# Altium integrated library ST Microprocessor 32-Bit.IntLib: 24 symbols (part 2 of 2)
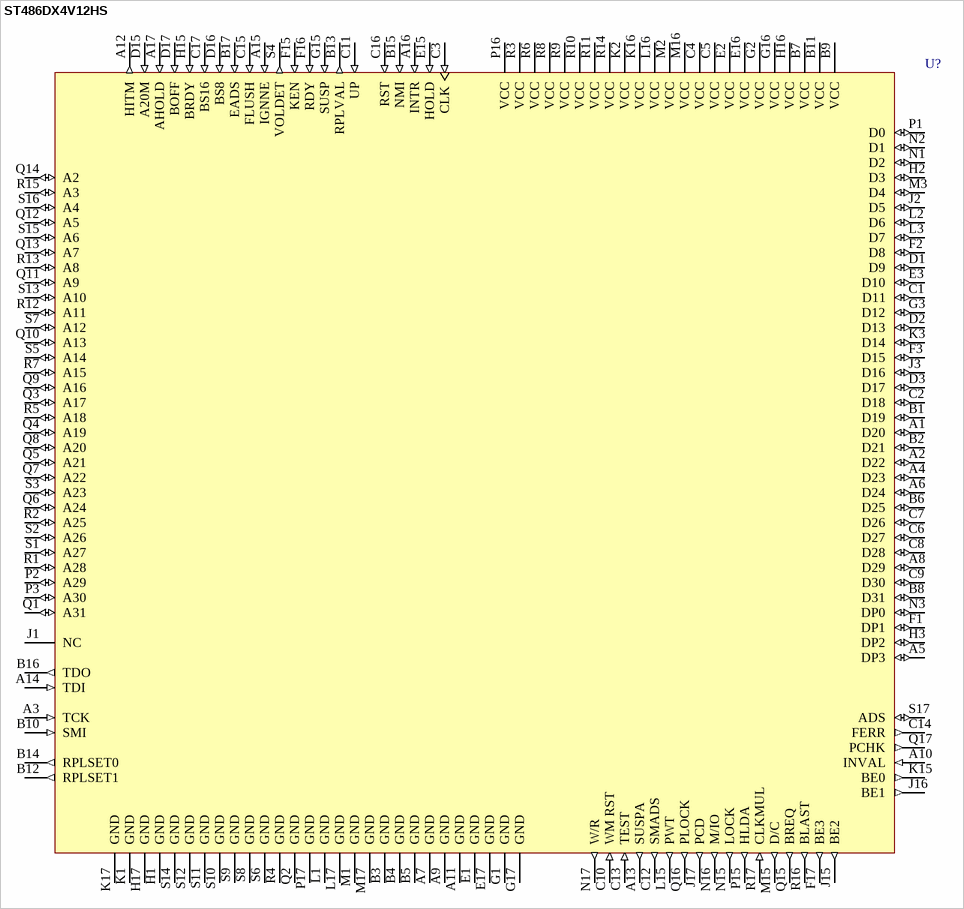
[diagram p17: symbol ST486DX4V12HS]

## ST486DX4V12HS
designator U?
120 Mhz Clock, Triple 3.45 Volt 486 CPU, 168-Pin PGA; Published: 24-Aug-2001; LatestRevisionDate: 6-Jun-2005; LatestRevisionNote: Stylized 3D Model Added.; DatasheetDocument: Oct-1995; PackageReference: PGA168; Publisher: Altium Limited; ComponentLink1Description: Manufacturer Link; ComponentLink1URL: http://www.st.com/
footprint PGA168 (PGA; 168 Leads; Body 44.5 x 44.5 mm; Plain Grid)
3D model ST486DX4V-PGA168 (PGA; 168 Leads; Body 44.5 x 44.5 mm; Plain Grid)
pins: A1 D20 (io), A2 D22 (io), A3 TCK (in), A4 D23 (io), A5 DP3 (io), A6 D24 (io), A7 GND (power), A8 D29 (io), A9 GND (power), A10 INVAL (in), A11 GND (power), A12 HITM (out), A13 SUSPA (out), A14 TDI (in), A15 IGNNE (in), A16 INTR (in), A17 AHOLD (in), B1 D19 (io), B2 D21 (io), B3 GND (power), B4 GND (power), B5 GND (power), B6 D25 (io), B7 VCC (power), B8 D31 (io), B9 VCC (power), B10 SMI (in), B11 VCC (power), B12 RPLSET1 (out), B13 RPLVAL (out), B14 RPLSET0 (out), B15 NMI (in), B16 TDO (out), B17 EADS (in), C1 D11 (io), C2 D18 (io), C3 CLK (in), C4 VCC (power), C5 VCC (power), C6 D27 (io), C7 D26 (io), C8 D28 (io), C9 D30 (io), C10 WM RST (in), C11 UP (in), C12 SMADS (out), C13 TEST (in), C14 FERR (out), C15 FLUSH (in), C16 RST (in), C17 BS16 (in), D1 D9 (io), D2 D13 (io), D3 D17 (io), D15 A20M (in), D16 BS8 (in), D17 BOFF (in), E1 GND (power), E2 VCC (power), E3 D10 (io), E15 HOLD (in), E16 VCC (power), E17 GND (power), F1 DP1 (io), F2 D8 (io), F3 D15 (io), F15 KEN (in), F16 RDY (in), F17 BE3 (out), G1 GND (power), G2 VCC (power), G3 D12 (io), G15 SUSP (in), G16 VCC (power), G17 GND (power), H1 GND (power), H2 D3 (io), H3 DP2 (io), H15 BRDY (in), H16 VCC (power), H17 GND (power), J1 NC, J2 D5 (io), J3 D16 (io), J15 BE2 (out), J16 BE1 (out), J17 PCD (out), K1 GND (power), K2 VCC (power), K3 D14 (io), K15 BE0 (out), K16 VCC (power), K17 GND (power), L1 GND (power), L2 D6 (io), L3 D7 (io), L15 PWT (out), L16 VCC (power), L17 GND (power), M1 GND (power), M2 VCC (power), M3 D4 (io), M15 D/C (out), M16 VCC (power), M17 GND (power), N1 D2 (io), N2 D1 (io), N3 DP0 (io), N15 LOCK (out), N16 M/IO (out), N17 W/R (out), P1 D0 (io), P2 A29 (io), P3 A30 (io), P15 HLDA (out), P16 VCC (power), P17 GND (power), Q1 A31 (io), Q2 GND (power), Q3 A17 (io), Q4 A19 (io), Q5 A21 (io), Q6 A24 (io), Q7 A22 (io), Q8 A20 (io), Q9 A16 (io), Q10 A13 (io), Q11 A9 (io), Q12 A5 (io), Q13 A7 (io), Q14 A2 (io), Q15 BREQ (out), Q16 PLOCK (out), Q17 PCHK (out), R1 A28 (io), R2 A25 (io), R3 VCC (power), R4 GND (power), R5 A18 (io), R6 VCC (power), R7 A15 (io), R8 VCC (power), R9 VCC (power), R10 VCC (power), R11 VCC (power), R12 A11 (io), R13 A8 (io), R14 VCC (power), R15 A3 (io), R16 BLAST (out), R17 CLKMUL (in), S1 A27 (io), S2 A26 (io), S3 A23 (io), S4 VOLDET (out), S5 A14 (io), S6 GND (power), S7 A12 (io), S8 GND (power), S9 GND (power), S10 GND (power), S11 GND (power), S12 GND (power), S13 A10 (io), S14 GND (power), S15 A6 (io), S16 A4 (io), S17 ADS (io)

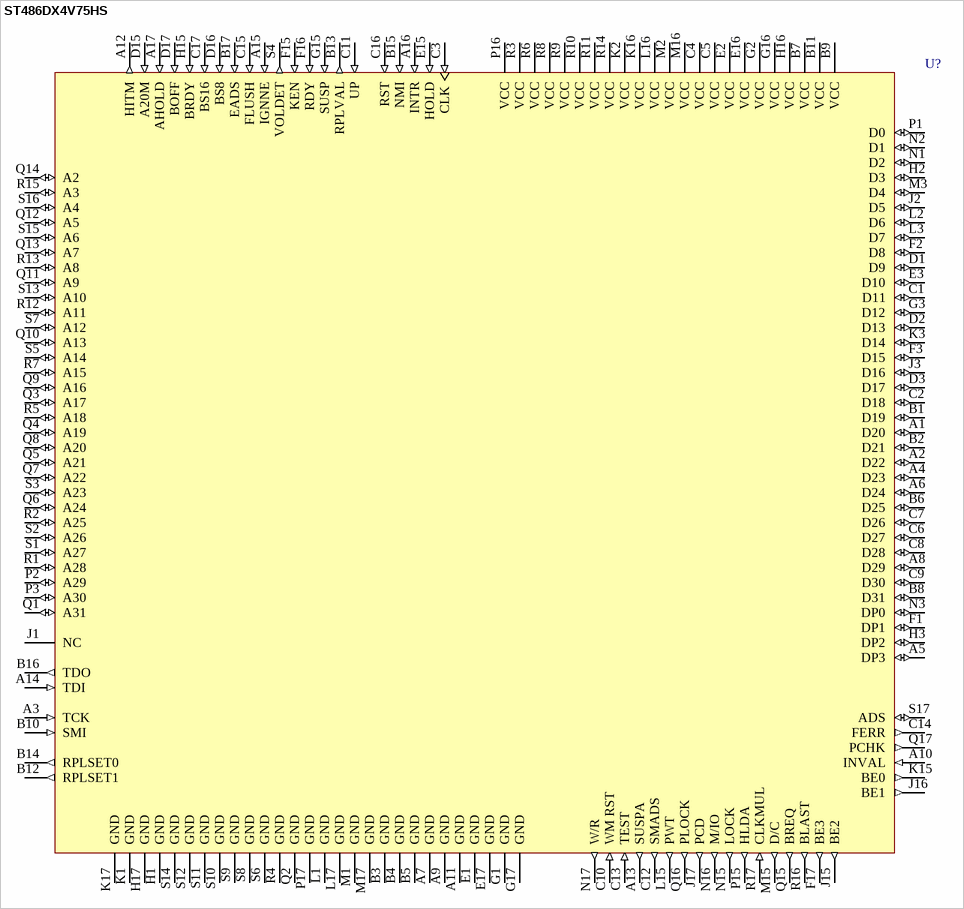
[diagram p13: symbol ST486DX4V75HS]

## ST486DX4V75HS
designator U?
75 Mhz Clock, Triple 3.45 Volt 486 CPU, 168-Pin PGA; Published: 24-Aug-2001; LatestRevisionDate: 6-Jun-2005; LatestRevisionNote: Stylized 3D Model Added.; DatasheetDocument: Oct-1995; PackageReference: PGA168; Publisher: Altium Limited; ComponentLink1Description: Manufacturer Link; ComponentLink1URL: http://www.st.com/
footprint PGA168 (PGA; 168 Leads; Body 44.5 x 44.5 mm; Plain Grid)
3D model ST486DX4V-PGA168 (PGA; 168 Leads; Body 44.5 x 44.5 mm; Plain Grid)
pins: A1 D20 (io), A2 D22 (io), A3 TCK (in), A4 D23 (io), A5 DP3 (io), A6 D24 (io), A7 GND (power), A8 D29 (io), A9 GND (power), A10 INVAL (in), A11 GND (power), A12 HITM (out), A13 SUSPA (out), A14 TDI (in), A15 IGNNE (in), A16 INTR (in), A17 AHOLD (in), B1 D19 (io), B2 D21 (io), B3 GND (power), B4 GND (power), B5 GND (power), B6 D25 (io), B7 VCC (power), B8 D31 (io), B9 VCC (power), B10 SMI (in), B11 VCC (power), B12 RPLSET1 (out), B13 RPLVAL (out), B14 RPLSET0 (out), B15 NMI (in), B16 TDO (out), B17 EADS (in), C1 D11 (io), C2 D18 (io), C3 CLK (in), C4 VCC (power), C5 VCC (power), C6 D27 (io), C7 D26 (io), C8 D28 (io), C9 D30 (io), C10 WM RST (in), C11 UP (in), C12 SMADS (out), C13 TEST (in), C14 FERR (out), C15 FLUSH (in), C16 RST (in), C17 BS16 (in), D1 D9 (io), D2 D13 (io), D3 D17 (io), D15 A20M (in), D16 BS8 (in), D17 BOFF (in), E1 GND (power), E2 VCC (power), E3 D10 (io), E15 HOLD (in), E16 VCC (power), E17 GND (power), F1 DP1 (io), F2 D8 (io), F3 D15 (io), F15 KEN (in), F16 RDY (in), F17 BE3 (out), G1 GND (power), G2 VCC (power), G3 D12 (io), G15 SUSP (in), G16 VCC (power), G17 GND (power), H1 GND (power), H2 D3 (io), H3 DP2 (io), H15 BRDY (in), H16 VCC (power), H17 GND (power), J1 NC, J2 D5 (io), J3 D16 (io), J15 BE2 (out), J16 BE1 (out), J17 PCD (out), K1 GND (power), K2 VCC (power), K3 D14 (io), K15 BE0 (out), K16 VCC (power), K17 GND (power), L1 GND (power), L2 D6 (io), L3 D7 (io), L15 PWT (out), L16 VCC (power), L17 GND (power), M1 GND (power), M2 VCC (power), M3 D4 (io), M15 D/C (out), M16 VCC (power), M17 GND (power), N1 D2 (io), N2 D1 (io), N3 DP0 (io), N15 LOCK (out), N16 M/IO (out), N17 W/R (out), P1 D0 (io), P2 A29 (io), P3 A30 (io), P15 HLDA (out), P16 VCC (power), P17 GND (power), Q1 A31 (io), Q2 GND (power), Q3 A17 (io), Q4 A19 (io), Q5 A21 (io), Q6 A24 (io), Q7 A22 (io), Q8 A20 (io), Q9 A16 (io), Q10 A13 (io), Q11 A9 (io), Q12 A5 (io), Q13 A7 (io), Q14 A2 (io), Q15 BREQ (out), Q16 PLOCK (out), Q17 PCHK (out), R1 A28 (io), R2 A25 (io), R3 VCC (power), R4 GND (power), R5 A18 (io), R6 VCC (power), R7 A15 (io), R8 VCC (power), R9 VCC (power), R10 VCC (power), R11 VCC (power), R12 A11 (io), R13 A8 (io), R14 VCC (power), R15 A3 (io), R16 BLAST (out), R17 CLKMUL (in), S1 A27 (io), S2 A26 (io), S3 A23 (io), S4 VOLDET (out), S5 A14 (io), S6 GND (power), S7 A12 (io), S8 GND (power), S9 GND (power), S10 GND (power), S11 GND (power), S12 GND (power), S13 A10 (io), S14 GND (power), S15 A6 (io), S16 A4 (io), S17 ADS (io)

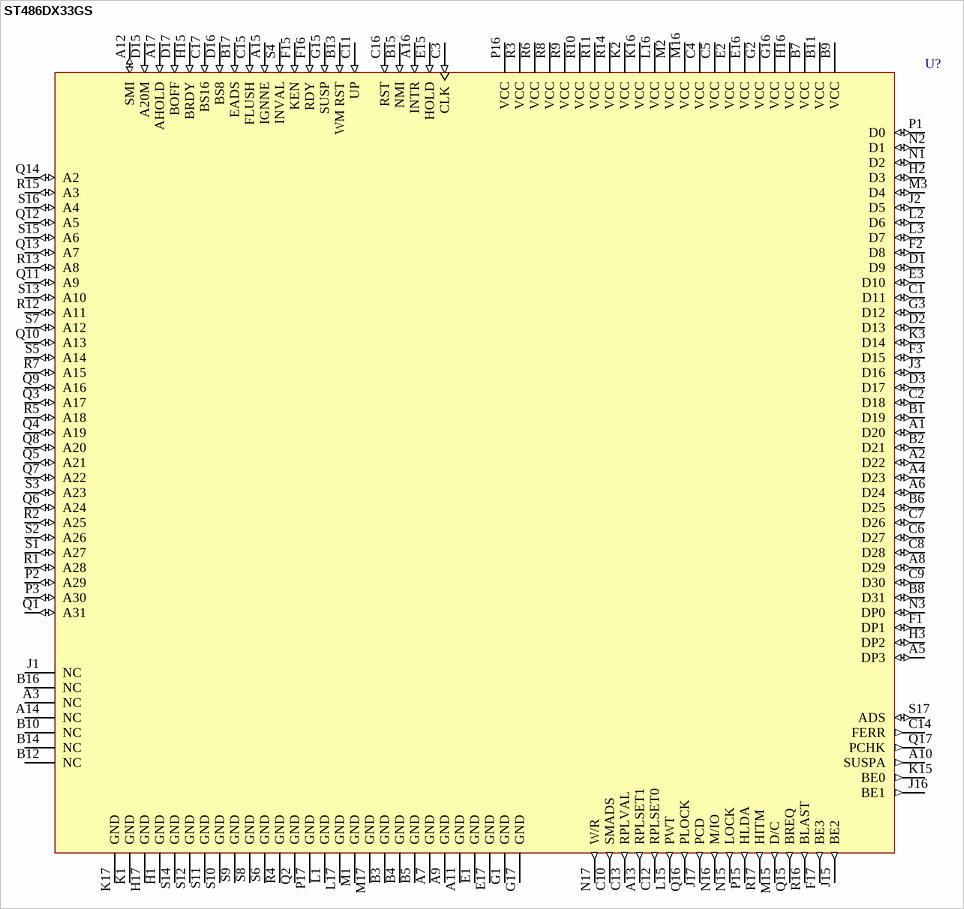
[diagram p14: symbol ST486DX33GS]

## ST486DX33GS
designator U?
5 Volt Central Processing Unit; Published: 24-Aug-2001; LatestRevisionDate: 6-Jun-2005; LatestRevisionNote: Stylized 3D Model Added.; DatasheetDocument: 1995; PackageReference: PGA168; Publisher: Altium Limited; ComponentLink1Description: Manufacturer Link; ComponentLink1URL: http://www.st.com/
footprint PGA168 (PGA; 168 Leads; Body 44.5 x 44.5 mm; Plain Grid)
3D model ST486DX-PGA168 (PGA; 168 Leads; Body 44.5 x 44.5 mm; Plain Grid)
pins: A1 D20 (io), A2 D22 (io), A3 NC, A4 D23 (io), A5 DP3 (io), A6 D24 (io), A7 GND (power), A8 D29 (io), A9 GND (power), A10 SUSPA (out), A11 GND (power), A12 SMI (io), A13 RPLSET1 (out), A14 NC, A15 IGNNE (in), A16 INTR (in), A17 AHOLD (in), B1 D19 (io), B2 D21 (io), B3 GND (power), B4 GND (power), B5 GND (power), B6 D25 (io), B7 VCC (power), B8 D31 (io), B9 VCC (power), B10 NC, B11 VCC (power), B12 NC, B13 WM RST (in), B14 NC, B15 NMI (in), B16 NC, B17 EADS (in), C1 D11 (io), C2 D18 (io), C3 CLK (in), C4 VCC (power), C5 VCC (power), C6 D27 (io), C7 D26 (io), C8 D28 (io), C9 D30 (io), C10 SMADS (out), C11 UP (in), C12 RPLSET0 (out), C13 RPLVAL (out), C14 FERR (out), C15 FLUSH (in), C16 RST (in), C17 BS16 (in), D1 D9 (io), D2 D13 (io), D3 D17 (io), D15 A20M (in), D16 BS8 (in), D17 BOFF (in), E1 GND (power), E2 VCC (power), E3 D10 (io), E15 HOLD (in), E16 VCC (power), E17 GND (power), F1 DP1 (io), F2 D8 (io), F3 D15 (io), F15 KEN (in), F16 RDY (in), F17 BE3 (out), G1 GND (power), G2 VCC (power), G3 D12 (io), G15 SUSP (in), G16 VCC (power), G17 GND (power), H1 GND (power), H2 D3 (io), H3 DP2 (io), H15 BRDY (in), H16 VCC (power), H17 GND (power), J1 NC, J2 D5 (io), J3 D16 (io), J15 BE2 (out), J16 BE1 (out), J17 PCD (out), K1 GND (power), K2 VCC (power), K3 D14 (io), K15 BE0 (out), K16 VCC (power), K17 GND (power), L1 GND (power), L2 D6 (io), L3 D7 (io), L15 PWT (out), L16 VCC (power), L17 GND (power), M1 GND (power), M2 VCC (power), M3 D4 (io), M15 D/C (out), M16 VCC (power), M17 GND (power), N1 D2 (io), N2 D1 (io), N3 DP0 (io), N15 LOCK (out), N16 M/IO (out), N17 W/R (out), P1 D0 (io), P2 A29 (io), P3 A30 (io), P15 HLDA (out), P16 VCC (power), P17 GND (power), Q1 A31 (io), Q2 GND (power), Q3 A17 (io), Q4 A19 (io), Q5 A21 (io), Q6 A24 (io), Q7 A22 (io), Q8 A20 (io), Q9 A16 (io), Q10 A13 (io), Q11 A9 (io), Q12 A5 (io), Q13 A7 (io), Q14 A2 (io), Q15 BREQ (out), Q16 PLOCK (out), Q17 PCHK (out), R1 A28 (io), R2 A25 (io), R3 VCC (power), R4 GND (power), R5 A18 (io), R6 VCC (power), R7 A15 (io), R8 VCC (power), R9 VCC (power), R10 VCC (power), R11 VCC (power), R12 A11 (io), R13 A8 (io), R14 VCC (power), R15 A3 (io), R16 BLAST (out), R17 HITM (out), S1 A27 (io), S2 A26 (io), S3 A23 (io), S4 INVAL (in), S5 A14 (io), S6 GND (power), S7 A12 (io), S8 GND (power), S9 GND (power), S10 GND (power), S11 GND (power), S12 GND (power), S13 A10 (io), S14 GND (power), S15 A6 (io), S16 A4 (io), S17 ADS (io)

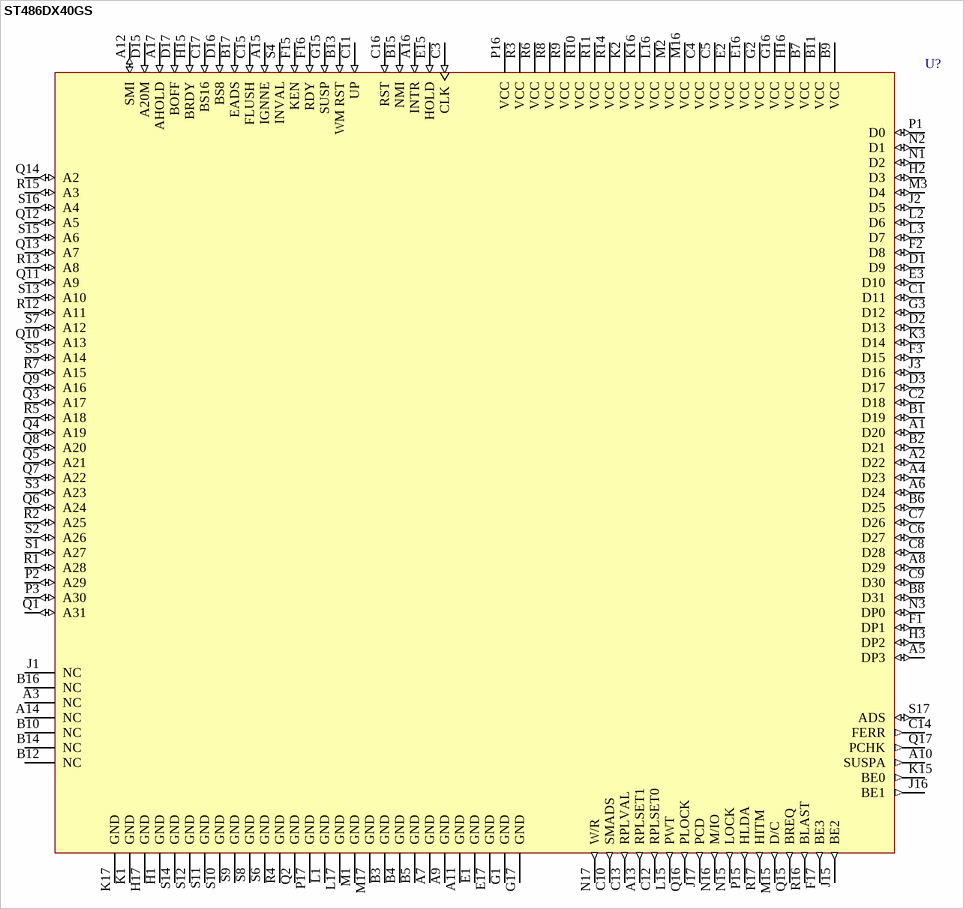
[diagram p15: symbol ST486DX40GS]

## ST486DX40GS
designator U?
5 Volt Central Processing Unit; Published: 24-Aug-2001; LatestRevisionDate: 6-Jun-2005; LatestRevisionNote: Stylized 3D Model Added.; DatasheetDocument: 1995; PackageReference: PGA168; Publisher: Altium Limited; ComponentLink1Description: Manufacturer Link; ComponentLink1URL: http://www.st.com/
footprint PGA168 (PGA; 168 Leads; Body 44.5 x 44.5 mm; Plain Grid)
3D model ST486DX-PGA168 (PGA; 168 Leads; Body 44.5 x 44.5 mm; Plain Grid)
pins: A1 D20 (io), A2 D22 (io), A3 NC, A4 D23 (io), A5 DP3 (io), A6 D24 (io), A7 GND (power), A8 D29 (io), A9 GND (power), A10 SUSPA (out), A11 GND (power), A12 SMI (io), A13 RPLSET1 (out), A14 NC, A15 IGNNE (in), A16 INTR (in), A17 AHOLD (in), B1 D19 (io), B2 D21 (io), B3 GND (power), B4 GND (power), B5 GND (power), B6 D25 (io), B7 VCC (power), B8 D31 (io), B9 VCC (power), B10 NC, B11 VCC (power), B12 NC, B13 WM RST (in), B14 NC, B15 NMI (in), B16 NC, B17 EADS (in), C1 D11 (io), C2 D18 (io), C3 CLK (in), C4 VCC (power), C5 VCC (power), C6 D27 (io), C7 D26 (io), C8 D28 (io), C9 D30 (io), C10 SMADS (out), C11 UP (in), C12 RPLSET0 (out), C13 RPLVAL (out), C14 FERR (out), C15 FLUSH (in), C16 RST (in), C17 BS16 (in), D1 D9 (io), D2 D13 (io), D3 D17 (io), D15 A20M (in), D16 BS8 (in), D17 BOFF (in), E1 GND (power), E2 VCC (power), E3 D10 (io), E15 HOLD (in), E16 VCC (power), E17 GND (power), F1 DP1 (io), F2 D8 (io), F3 D15 (io), F15 KEN (in), F16 RDY (in), F17 BE3 (out), G1 GND (power), G2 VCC (power), G3 D12 (io), G15 SUSP (in), G16 VCC (power), G17 GND (power), H1 GND (power), H2 D3 (io), H3 DP2 (io), H15 BRDY (in), H16 VCC (power), H17 GND (power), J1 NC, J2 D5 (io), J3 D16 (io), J15 BE2 (out), J16 BE1 (out), J17 PCD (out), K1 GND (power), K2 VCC (power), K3 D14 (io), K15 BE0 (out), K16 VCC (power), K17 GND (power), L1 GND (power), L2 D6 (io), L3 D7 (io), L15 PWT (out), L16 VCC (power), L17 GND (power), M1 GND (power), M2 VCC (power), M3 D4 (io), M15 D/C (out), M16 VCC (power), M17 GND (power), N1 D2 (io), N2 D1 (io), N3 DP0 (io), N15 LOCK (out), N16 M/IO (out), N17 W/R (out), P1 D0 (io), P2 A29 (io), P3 A30 (io), P15 HLDA (out), P16 VCC (power), P17 GND (power), Q1 A31 (io), Q2 GND (power), Q3 A17 (io), Q4 A19 (io), Q5 A21 (io), Q6 A24 (io), Q7 A22 (io), Q8 A20 (io), Q9 A16 (io), Q10 A13 (io), Q11 A9 (io), Q12 A5 (io), Q13 A7 (io), Q14 A2 (io), Q15 BREQ (out), Q16 PLOCK (out), Q17 PCHK (out), R1 A28 (io), R2 A25 (io), R3 VCC (power), R4 GND (power), R5 A18 (io), R6 VCC (power), R7 A15 (io), R8 VCC (power), R9 VCC (power), R10 VCC (power), R11 VCC (power), R12 A11 (io), R13 A8 (io), R14 VCC (power), R15 A3 (io), R16 BLAST (out), R17 HITM (out), S1 A27 (io), S2 A26 (io), S3 A23 (io), S4 INVAL (in), S5 A14 (io), S6 GND (power), S7 A12 (io), S8 GND (power), S9 GND (power), S10 GND (power), S11 GND (power), S12 GND (power), S13 A10 (io), S14 GND (power), S15 A6 (io), S16 A4 (io), S17 ADS (io)

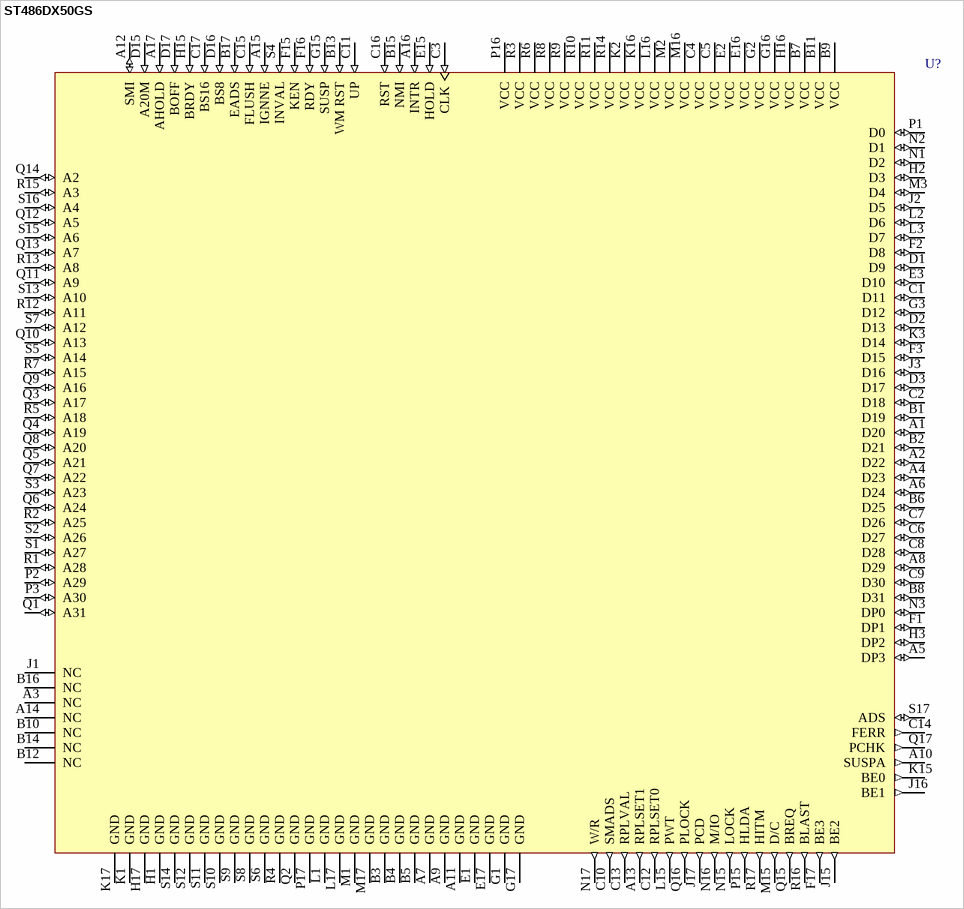
[diagram p16: symbol ST486DX50GS]

## ST486DX50GS
designator U?
5 Volt Central Processing Unit; Published: 24-Aug-2001; LatestRevisionDate: 6-Jun-2005; LatestRevisionNote: Stylized 3D Model Added.; DatasheetDocument: 1995; PackageReference: PGA168; Publisher: Altium Limited; ComponentLink1Description: Manufacturer Link; ComponentLink1URL: http://www.st.com/
footprint PGA168 (PGA; 168 Leads; Body 44.5 x 44.5 mm; Plain Grid)
3D model ST486DX-PGA168 (PGA; 168 Leads; Body 44.5 x 44.5 mm; Plain Grid)
pins: A1 D20 (io), A2 D22 (io), A3 NC, A4 D23 (io), A5 DP3 (io), A6 D24 (io), A7 GND (power), A8 D29 (io), A9 GND (power), A10 SUSPA (out), A11 GND (power), A12 SMI (io), A13 RPLSET1 (out), A14 NC, A15 IGNNE (in), A16 INTR (in), A17 AHOLD (in), B1 D19 (io), B2 D21 (io), B3 GND (power), B4 GND (power), B5 GND (power), B6 D25 (io), B7 VCC (power), B8 D31 (io), B9 VCC (power), B10 NC, B11 VCC (power), B12 NC, B13 WM RST (in), B14 NC, B15 NMI (in), B16 NC, B17 EADS (in), C1 D11 (io), C2 D18 (io), C3 CLK (in), C4 VCC (power), C5 VCC (power), C6 D27 (io), C7 D26 (io), C8 D28 (io), C9 D30 (io), C10 SMADS (out), C11 UP (in), C12 RPLSET0 (out), C13 RPLVAL (out), C14 FERR (out), C15 FLUSH (in), C16 RST (in), C17 BS16 (in), D1 D9 (io), D2 D13 (io), D3 D17 (io), D15 A20M (in), D16 BS8 (in), D17 BOFF (in), E1 GND (power), E2 VCC (power), E3 D10 (io), E15 HOLD (in), E16 VCC (power), E17 GND (power), F1 DP1 (io), F2 D8 (io), F3 D15 (io), F15 KEN (in), F16 RDY (in), F17 BE3 (out), G1 GND (power), G2 VCC (power), G3 D12 (io), G15 SUSP (in), G16 VCC (power), G17 GND (power), H1 GND (power), H2 D3 (io), H3 DP2 (io), H15 BRDY (in), H16 VCC (power), H17 GND (power), J1 NC, J2 D5 (io), J3 D16 (io), J15 BE2 (out), J16 BE1 (out), J17 PCD (out), K1 GND (power), K2 VCC (power), K3 D14 (io), K15 BE0 (out), K16 VCC (power), K17 GND (power), L1 GND (power), L2 D6 (io), L3 D7 (io), L15 PWT (out), L16 VCC (power), L17 GND (power), M1 GND (power), M2 VCC (power), M3 D4 (io), M15 D/C (out), M16 VCC (power), M17 GND (power), N1 D2 (io), N2 D1 (io), N3 DP0 (io), N15 LOCK (out), N16 M/IO (out), N17 W/R (out), P1 D0 (io), P2 A29 (io), P3 A30 (io), P15 HLDA (out), P16 VCC (power), P17 GND (power), Q1 A31 (io), Q2 GND (power), Q3 A17 (io), Q4 A19 (io), Q5 A21 (io), Q6 A24 (io), Q7 A22 (io), Q8 A20 (io), Q9 A16 (io), Q10 A13 (io), Q11 A9 (io), Q12 A5 (io), Q13 A7 (io), Q14 A2 (io), Q15 BREQ (out), Q16 PLOCK (out), Q17 PCHK (out), R1 A28 (io), R2 A25 (io), R3 VCC (power), R4 GND (power), R5 A18 (io), R6 VCC (power), R7 A15 (io), R8 VCC (power), R9 VCC (power), R10 VCC (power), R11 VCC (power), R12 A11 (io), R13 A8 (io), R14 VCC (power), R15 A3 (io), R16 BLAST (out), R17 HITM (out), S1 A27 (io), S2 A26 (io), S3 A23 (io), S4 INVAL (in), S5 A14 (io), S6 GND (power), S7 A12 (io), S8 GND (power), S9 GND (power), S10 GND (power), S11 GND (power), S12 GND (power), S13 A10 (io), S14 GND (power), S15 A6 (io), S16 A4 (io), S17 ADS (io)